# Altium footprint library CLAP.PcbLib: 265 footprints (part 1 of 17)
Each footprint in its own frame and in the unit in brackets; x right, y up, seen from the top. Pads: shape width x height; smd on the part's side, far side on the other; paste and mask are expansions set on the pad; w line width, h text height; cw(c..) or ccw(c..) is an arc to the next point about the centre after c.
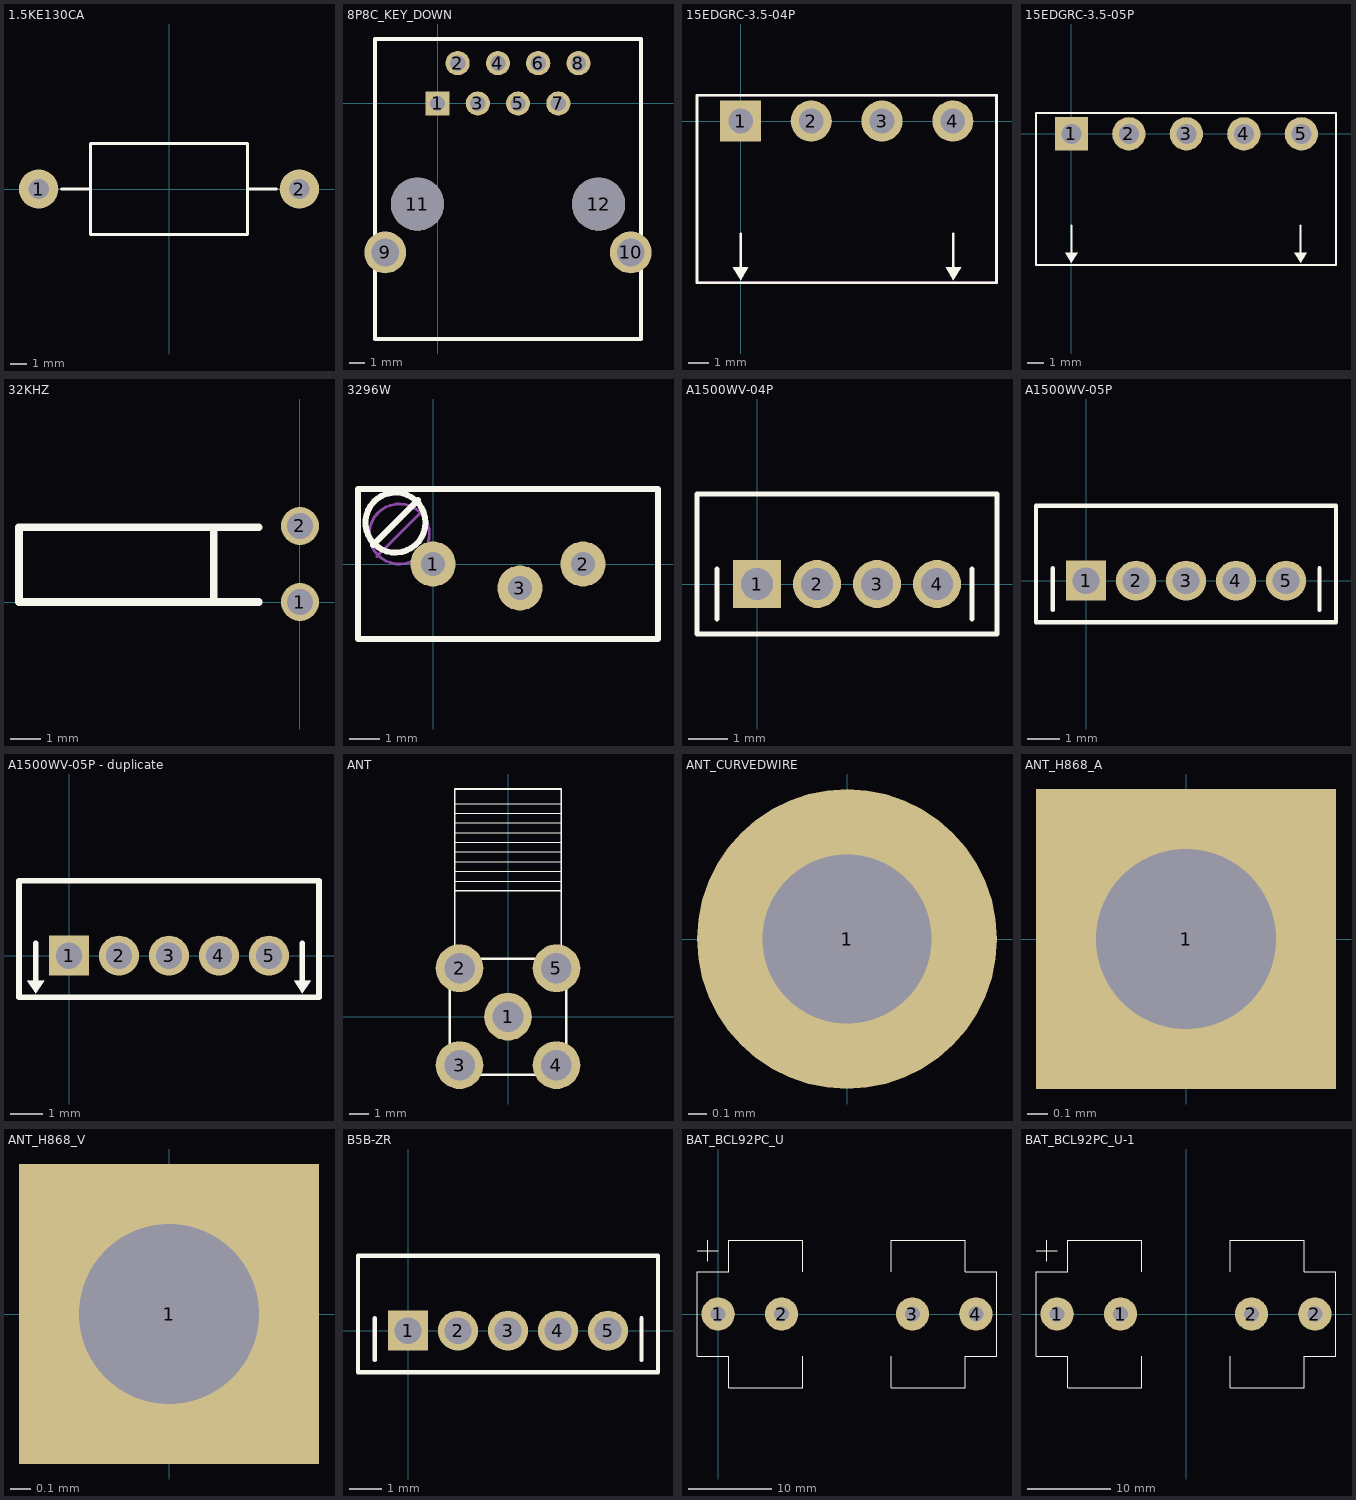
[diagram p0: the footprints below, top view; thin cyan lines are the x and y axes]

## 1.5KE130CA [mil]
pads (2):
  round 95 hole 49: 1(-315,0) 2(315,0)
Top Overlay:
  lines w6.69: -260,0 -190,0 ; 190,0 260,0 ; -190,-110 -190,110 190,110 190,-110 -190,-110
3D body "D_DO-201AE_P15.24mm_Horizontal.step": height 228.74, standoff -98.43, extent -321.48,-104.72 321.48,104.73

## 8P8C_KEY_DOWN [mil]
pads (12):
  rect 60x60 hole 38: 1(0,0)
  round 60 hole 38: 2(50,100) 3(100,0) 4(150,100) 5(200,0) 6(250,100) 7(300,0) 8(350,100)
  round 103.94 hole 68.9: 9(-130,-370) 10(480,-370)
  round 131.93 hole 131.93 unplated: 11(-50,-250) 12(400,-250)
Top Overlay:
  lines w10: -155,-585 505,-585 505,160 -155,160 -155,-585

## 15EDGRC-3.5-04P [mil]
pads (4):
  rect 80x80 hole 48: 1(0,0)
  round 80 hole 48: 2(137.8,0) 3(275.8,0) 4(413.8,0)
Top Overlay:
  region: 15,-285 -15,-285 0,-310
  region: 430,-285 400,-285 415,-310
  lines w5: 0,-285 0,-220 ; 415,-285 415,-220 ; 498,50 -85,50 -85,-315 499,-315 499,50
Mechanical 1:
  lines w3.94: -85,-315 -85,50 500,50 500,-315 -85,-315
3D body "15EDGRC-3_5-04P.step": height 283.46, standoff -133.86, extent -84.64,-314.96 498.04,47.24

## 15EDGRC-3.5-05P [mil]
pads (5):
  rect 80x80 hole 48: 1(0,0)
  round 80 hole 48: 2(137.8,0) 3(275.8,0) 4(413.8,0) 5(551.8,0)
Top Overlay:
  region: 565,-285 535,-285 550,-310
  region: 15,-285 -15,-285 0,-310
  lines w5: 0,-285 0,-220 ; 550,-285 550,-220 ; -85,-315 635,-315 635,50 -85,50 -85,-315
3D body "15EDGRC-3_5-2.step": height 283.46, standoff -133.86, extent -88.58,-314.96 218.51,47.24
3D body "15EDGRC-3_5-03P.STEP": height 283.46, standoff -133.86, extent 190.95,-314.96 633.86,47.25

## 32KHZ [mil]
pads (2):
  round 50 hole 34: 1(0,0) 2(0,100)
Top Overlay:
  lines w10: -113.43,0 -113.43,98.43 ; -54.37,0 -369.33,0 -369.33,98.43 -54.37,98.43
3D body "KX-26.step": height 76.77, standoff -78.74, extent -326.78,3.94 1.96,94.49

## 3296W [mm]
pads (3):
  round 1.5 hole 0.8: 1(0,0) 2(5,0) 3(2.9,-0.8)
Top Overlay:
  circle w0.2: c-1.252,1.381 r1
  lines w0.2: -2.002,0.631 -0.502,2.131 ; -2.5,-2.5 7.5,-2.5 7.5,2.5 -2.5,2.5 -2.5,-2.5
Mechanical 1:
  circle w0.1: c-1.125,1 r1
  lines w0.1: -1.875,0.25 -0.375,1.75 ; -2.5,-2.5 7.5,-2.5 7.5,2.5 -2.5,2.5 -2.5,-2.5

## A1500WV-04P [mil]
pads (4):
  rect 48x48 hole 32: 1(0,0)
  round 48 hole 32: 2(60,0) 3(120,0) 4(180,0)
Top Overlay:
  lines w5: -40,-35 -40,15 ; 215,-35 215,15 ; -60,-50 -60,90 240,90 240,-50 -60,-50
3D body "B4B-ZR.STEP": height 177.17, standoff -106.3, extent -59.05,-50 236.22,87.8

## A1500WV-05P [mil]
pads (5):
  rect 48x48 hole 32: 1(0,0)
  round 48 hole 32: 2(60,0) 3(120,0) 4(180,0) 5(240,0)
Top Overlay:
  lines w5: -40,-35 -40,15 ; 280,-35 280,15 ; -60,-50 300,-50 300,90 -60,90 -60,-50
3D body "B5B-ZR.STEP": height 177.17, standoff -106.3, extent -59.05,-50 295.28,87.8

## A1500WV-05P - duplicate [mm]
height 4.4
pads (5):
  rect 1.22x1.22 hole 0.8: 1(0,0)
  round 1.22 hole 0.8: 2(1.524,0) 3(3.048,0) 4(4.572,0) 5(6.096,0)
Top Overlay:
  region: -1.016,-1.143 -1.27,-0.762 -0.762,-0.762
  region: 7.112,-1.143 6.858,-0.762 7.366,-0.762
  lines w0.17: -1.016,-0.889 -1.016,0.381 ; 7.112,-0.889 7.112,0.381 ; -1.524,-1.27 -1.524,2.286 7.62,2.286 7.62,-1.27 -1.524,-1.27
Mechanical 1:
  region: -0.762,-0.762 -1.27,-0.762 -1.016,-1.143
  region: 7.366,-0.762 6.858,-0.762 7.112,-1.143
  lines w0.1: -1.016,-0.889 -1.016,0.381 ; 7.112,-0.889 7.112,0.381 ; -1.524,-1.27 -1.524,2.286 7.62,2.286 7.62,-1.27 -1.524,-1.27
3D body "B5B-ZR.STEP": height 4.5, standoff -2.7, extent -1.5,-1.27 7.5,2.23

## ANT [mm]
pads (5):
  round 2.5 hole 1.6: 1(0,0) 2(-2.54,2.54) 3(-2.54,-2.54) 4(2.54,-2.54) 5(2.54,2.54)
Top Overlay:
  lines w0.05: -2.794,7.112 2.794,7.112 ; -2.794,7.62 2.794,7.62 ; -2.794,8.128 2.794,8.128 ; -2.794,8.636 2.794,8.636 ; -2.794,9.144 2.794,9.144 ; -2.794,9.652 2.794,9.652 ; -2.794,10.16 2.794,10.16 ; -2.794,10.668 2.794,10.668 ; -2.794,11.176 2.794,11.176
  lines w0.1: -2.794,3.048 -2.794,11.938 2.794,11.938 2.794,3.048 ; -2.794,6.604 2.794,6.604
  lines w0.127: -3.048,-2.032 -2.032,-2.032 -2.032,-3.048 ; -3.048,2.032 -2.032,2.032 -2.032,3.048 ; 2.032,-3.048 2.032,-2.032 3.048,-2.032 ; 2.032,3.048 2.032,2.032 3.048,2.032 ; -3.048,-3.048 3.048,-3.048 3.048,3.048 -3.048,3.048 -3.048,-3.048
3D body "SMA-angled.STEP": height 10.3, standoff -3.5, extent -3.5,-3.5 3.5,11

## ANT_CURVEDWIRE [mm]
pads (1):
  round 1.6 hole 0.9 mask+0.1: 1(0,0)
3D body: height 8, standoff -2, extent -0.398,-0.399 0.398,0.399
3D body: height 8.4, standoff 7.6, extent 0,-0.399 29.2,0.399
3D body: height 8.4, standoff 7.6, extent 28.602,-0.2 29.398,32
3D body: height 8.4, standoff 7.6, extent 25.332,31.432 29.431,35.531

## ANT_H868_A [mm] "helical 868 MHz antenna"
height 2.38
pads (1):
  rect 1.5x1.5 hole 0.9: 1(0,0)
3D body "868mhz_antenna_angle.STEP": height 11.15, standoff -3.79, extent -0.444,-4.15 18.9,2.15

## ANT_H868_V [mm] "helical 868 MHz antenna"
height 2.38
pads (1):
  rect 1.5x1.5 hole 0.9: 1(0,0)
3D body "868mhz_antenna.STEP": height 15.4, standoff -2.37, extent -5.9,-4.25 0.4,2.05

## B5B-ZR [mil]
pads (5):
  rect 48x48 hole 32: 1(0,0)
  round 48 hole 32: 2(60,0) 3(120,0) 4(180,0) 5(240,0)
Top Overlay:
  lines w5: -40,-35 -40,15 ; 280,-35 280,15 ; -60,-50 -60,90 300,90 300,-50 -60,-50
3D body "B5B-ZR.STEP": height 86.61, standoff -196.85, extent -57.17,-50 297.16,87.79

## BAT_BCL92PC_U [mm]
pads (4):
  round 4 hole 1.8: 1(0,0) 2(7.62,0) 3(23.368,0) 4(30.988,0)
Top Overlay:
  lines w0.127: -2.54,7.62 0,7.62 ; -1.27,6.35 -1.27,8.89 ; 10.16,-5.08 10.16,-8.89 1.27,-8.89 1.27,-5.08 -2.54,-5.08 -2.54,5.08 1.27,5.08 1.27,8.89 10.16,8.89 10.16,5.08 ; 20.828,-5.08 20.828,-8.89 29.718,-8.89 29.718,-5.08 33.528,-5.08 33.528,5.08 29.718,5.08 29.718,8.89 20.828,8.89 20.828,5.08
3D body "GL2003 AA Battery Clip MPD BK-92.stp": height 15.36, standoff -4.03, extent 23.24,-7.405 32.758,7.405
3D body "GL2003 AA Battery Clip MPD BK-92.stp": height 15.36, standoff -4.03, extent -2.008,-7.405 7.51,7.405

## BAT_BCL92PC_U-1 [mm]
pads (4):
  round 4 hole 1.8: 1(-15.494,0) 1(-7.874,0) 2(7.874,0) 2(15.494,0)
Top Overlay:
  lines w0.127: -18.034,7.62 -15.494,7.62 ; -16.764,6.35 -16.764,8.89 ; -5.334,-5.08 -5.334,-8.89 -14.224,-8.89 -14.224,-5.08 -18.034,-5.08 -18.034,5.08 -14.224,5.08 -14.224,8.89 -5.334,8.89 -5.334,5.08 ; 5.334,-5.08 5.334,-8.89 14.224,-8.89 14.224,-5.08 18.034,-5.08 18.034,5.08 14.224,5.08 14.224,8.89 5.334,8.89 5.334,5.08
3D body "BATH_KEYSTONE_92.stp": height 15.13, standoff -3.81, extent 7.848,-6.726 17.381,6.726
3D body "BATH_KEYSTONE_92.stp": height 15.13, standoff -3.81, extent -17.381,-6.726 -7.848,6.726